# EAGLE library part TLP281-4 (library Device-IPC7351C)
OSHIBA PHOTOCOUPLER GaAs IRED & PHOTO-TRANSISTOR TLP281, TLP281-4 Collector-Emitter Voltage : 80 V (min) Current Transfer Ratio : 50% (min) *** Rank GB : 100% (min) CTR: 100-600 normal chose GB Isolation Voltage : 2500 Vrms (min) UL Recognized : UL1577, File No. E67349
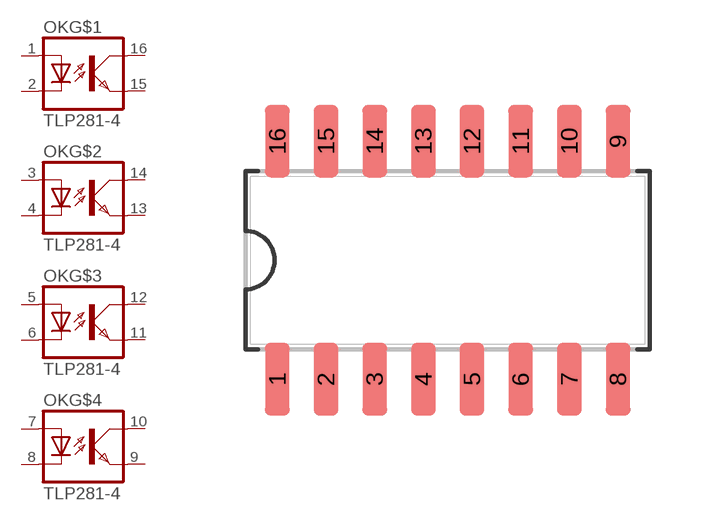
[diagram p1: symbol with the pads of SOIC16P127_1030X700X210L60X40N--HALF_PITCH_MINI_FLAT_16P; footprint SOIC16P127_1030X700X210L60X40N--HALF_PITCH_MINI_FLAT_16P]

Designator prefix OK; gates G$1=OK G$2=OK G$3=OK G$4=OK

## TLP281-4GB  [SOIC16P127_1030X700X210L60X40N--HALF_PITCH_MINI_FLAT_16P]
1  G$1:A  pas
2  G$1:C  pas
3  G$2:A  pas
4  G$2:C  pas
5  G$3:A  pas
6  G$3:C  pas
7  G$4:A  pas
8  G$4:C  pas
9  G$4:EMIT  pas
10  G$4:COL  pas
11  G$3:EMIT  pas
12  G$3:COL  pas
13  G$2:EMIT  pas
14  G$2:COL  pas
15  G$1:EMIT  pas
16  G$1:COL  pas

## Footprint SOIC16P127_1030X700X210L60X40N--HALF_PITCH_MINI_FLAT_16P (pad centres in mm)
SOP16 Half Pitch Mini Flat - Small Outline IC (SOIC), 1.27 mm pitch; 16 pin, 10.30 mm L X 4.40 mm W X 2.10 mm H body Small Outline IC (SOIC), 1.27 mm pitch; 16 pin, 10.30 mm L X 4.40 mm W X 2.10 mm H body PCB Libraries Packages
smd 0.65 x 1.9: 1 -4.445,-3.105; 2 -3.175,-3.105; 3 -1.905,-3.105; 4 -0.635,-3.105; 5 0.635,-3.105; 6 1.905,-3.105; 7 3.175,-3.105; 8 4.445,-3.105; 9 4.445,3.105; 10 3.175,3.105; 11 1.905,3.105; 12 0.635,3.105; 13 -0.635,3.105; 14 -1.905,3.105; 15 -3.175,3.105; 16 -4.445,3.105